# Altium schematic symbol library CFR50J150R.SchLib: 1 symbol
Pins are listed as number, name and electrical type; pins without a type are passive.

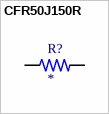
[diagram p0: symbol CFR50J150R]

## CFR50J150R
designator R?
Through Hole Carbon Film Resistor, Cfr Series, 150 Ohm, 500 Mw, - 5%, 350 V, Axial Leaded; MF: TE Connectivity; MP: CFR50J150R; Availability: Good; Value: *; Package: Axial TE Connectivity; SnapEDA_Link: https://www.snapeda.com/parts/CFR50J150R/TE%20Connectivity/view-part/2667839/?ref=snap; Price: None; Check_prices: https://www.snapeda.com/parts/CFR50J150R/TE%20Connectivity/view-part/2667839/?ref=eda; Purchase-URL: https://pricing.snapeda.com/search/part/CFR50J150R/?ref=eda
footprint RESAD975W59L900D300
pins: 1, 2